# Altium footprint library ECard_Lib.PcbLib: 20 footprints (part 1 of 2)
Each footprint in its own frame and in the unit in brackets; x right, y up, seen from the top. Pads: shape width x height; smd on the part's side, far side on the other; paste and mask are expansions set on the pad; w line width, h text height; cw(c..) or ccw(c..) is an arc to the next point about the centre after c.
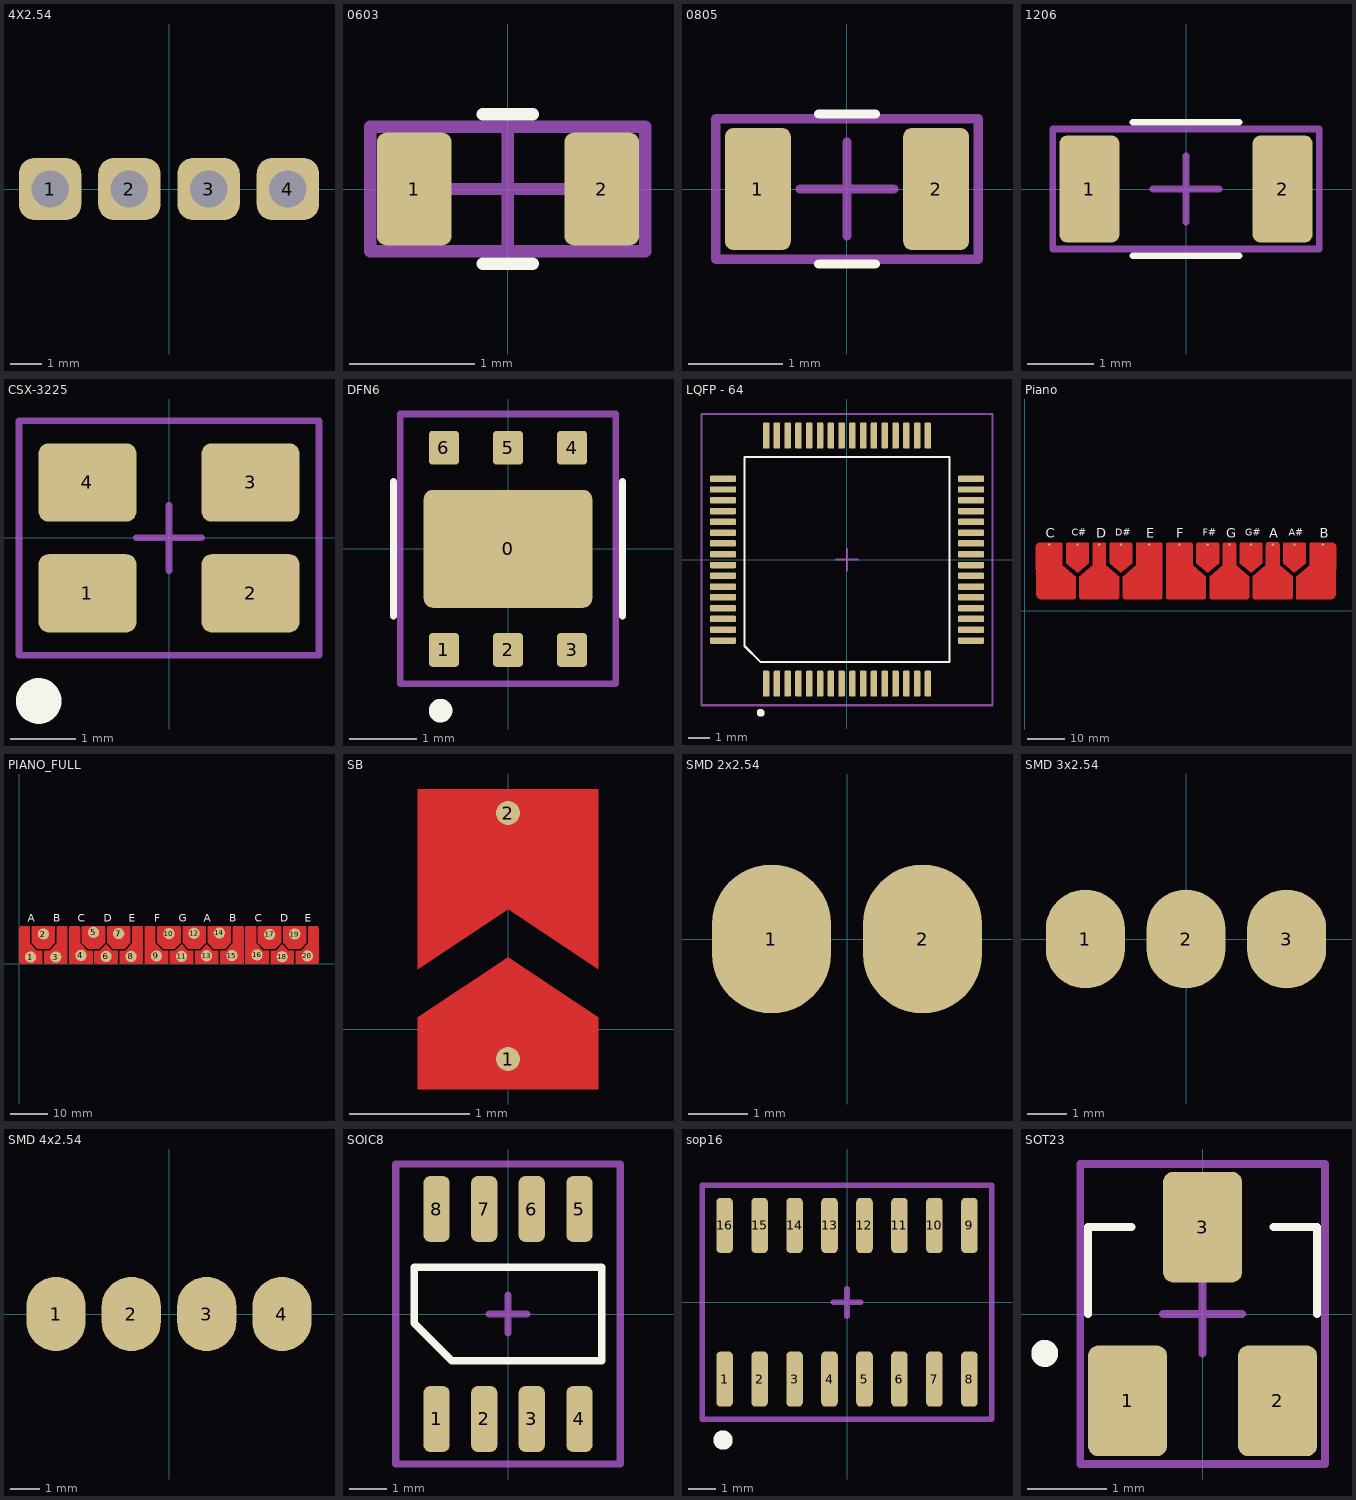
[diagram p0: the footprints below, top view; thin cyan lines are the x and y axes]

## 4X2.54 [mm]
pads (4):
  rrect50% 2x2 hole 1.2 mask+0.05: 1(-3.81,0) 2(-1.27,0) 3(1.27,0) 4(3.81,0)
3D body "1x4 Male Pin Header.STEP": height 10.54, standoff -3, extent -5.08,-1.25 5.085,1.25

## 0603 [mm]
pads (2):
  rrect25% 0.6x0.9 smd mask+0.05: 1(-0.75,0) 2(0.75,0)
Top Overlay:
  lines w0.1: -0.2,-0.6 0.2,-0.6 ; -0.2,0.6 0.2,0.6
Mechanical 15:
  lines w0.1: -0.5,0 0.5,0 ; 0,-0.5 0,0.5 ; -1.1,-0.5 -1.1,0.5 1.1,0.5 1.1,-0.5 -1.1,-0.5
3D body "Resistor 1608 (0603).step": height 0.45, standoff 0, extent -0.8,-0.4 0.8,0.4

## 0805 [mm]
pads (2):
  rrect25% 0.7x1.3 smd mask+0.05: 1(-0.95,0) 2(0.95,0)
Top Overlay:
  lines w0.1: -0.3,-0.8 0.3,-0.8 ; -0.3,0.8 0.3,0.8
Mechanical 15:
  lines w0.1: -0.5,0 0.5,0 ; 0,-0.5 0,0.5 ; -1.4,-0.75 -1.4,0.75 1.4,0.75 1.4,-0.75 -1.4,-0.75
3D body "C0805_135.step": height 1.35, standoff 0, extent -1,-0.625 1,0.625

## 1206 [mm]
pads (2):
  rrect25% 0.9x1.6 smd mask+0.05: 1(-1.45,0) 2(1.45,0)
Top Overlay:
  lines w0.1: -0.8,-1 0.8,-1 ; -0.8,1 0.8,1
Mechanical 15:
  lines w0.1: -0.5,0 0.5,0 ; 0,-0.5 0,0.5 ; -2,-0.9 -2,0.9 2,0.9 2,-0.9 -2,-0.9
3D body "Resistor_1206.step": height 0.61, standoff 0.01, extent -1.6,-0.8 1.6,0.8

## CSX-3225 [mm]
pads (4):
  rrect25% 1.5x1.2 smd mask+0.05: 1(-1.25,-0.85) 2(1.25,-0.85) 3(1.25,0.85) 4(-1.25,0.85)
Top Overlay:
  circle w0.5: c-2,-2.5 r0.1
Mechanical 15:
  lines w0.1: -0.5,0 0.5,0 ; 0,-0.5 0,0.5 ; -2.3,-1.8 2.3,-1.8 2.3,1.8 -2.3,1.8 -2.3,-1.8
3D body "3225 SMD Crystal Oscillator.STEP": height 0.65, standoff -0.05, extent -1.6,-1.25 1.6,1.25

## DFN6 [mm]
pads (7):
  rrect15% 2.5x1.75 smd mask+0.05: 0(0,0)
  rrect25% 0.45x0.5 smd mask+0.05: 1(-0.95,-1.5) 2(0,-1.5) 3(0.95,-1.5) 4(0.95,1.5) 5(0,1.5) 6(-0.95,1.5)
Top Overlay:
  circle w0.25: c-1,-2.4 r0.05
  lines w0.1: -1.7,-1 -1.7,1 ; 1.7,-1 1.7,1
Mechanical 15:
  lines w0.1: -0.5,0 0.5,0 ; 0,-0.5 0,0.5 ; -1.6,-2 1.6,-2 1.6,2 -1.6,2 -1.6,-2
3D body: height 0.8, standoff 0, extent -1.5,-1.5 1.5,1.5

## LQFP - 64 [mm]
pads (64):
  rrect30% 0.3x1.2 smd mask-0.5: 1(-3.75,-5.75) 2(-3.25,-5.75) 3(-2.75,-5.75) 4(-2.25,-5.75) 5(-1.75,-5.75) 6(-1.25,-5.75) 7(-0.75,-5.75) 8(-0.25,-5.75) 9(0.25,-5.75) 10(0.75,-5.75) 11(1.25,-5.75) 12(1.75,-5.75) 13(2.25,-5.75) 14(2.75,-5.75) 15(3.25,-5.75) 16(3.75,-5.75) 33(3.75,5.75) 34(3.25,5.75) 35(2.75,5.75) 36(2.25,5.75) 37(1.75,5.75) 38(1.25,5.75) 39(0.75,5.75) 40(0.25,5.75) 41(-0.25,5.75) 42(-0.75,5.75) 43(-1.25,5.75) 44(-1.75,5.75) 45(-2.25,5.75) 46(-2.75,5.75) 47(-3.25,5.75) 48(-3.75,5.75)
  rrect30% 1.2x0.3 smd mask-0.5: 17(5.75,-3.75) 18(5.75,-3.25) 19(5.75,-2.75) 20(5.75,-2.25) 21(5.75,-1.75) 22(5.75,-1.25) 23(5.75,-0.75) 24(5.75,-0.25) 25(5.75,0.25) 26(5.75,0.75) 27(5.75,1.25) 28(5.75,1.75) 29(5.75,2.25) 30(5.75,2.75) 31(5.75,3.25) 32(5.75,3.75) 49(-5.75,3.75) 50(-5.75,3.25) 51(-5.75,2.75) 52(-5.75,2.25) 53(-5.75,1.75) 54(-5.75,1.25) 55(-5.75,0.75) 56(-5.75,0.25) 57(-5.75,-0.25) 58(-5.75,-0.75) 59(-5.75,-1.25) 60(-5.75,-1.75) 61(-5.75,-2.25) 62(-5.75,-2.75) 63(-5.75,-3.25) 64(-5.75,-3.75)
Top Overlay:
  circle w0.254: c-4,-7.1 r0.056
  lines w0.1: -4.75,-4 -4,-4.75 4.75,-4.75 4.75,4.75 -4.75,4.75 -4.75,-4
Top Solder:
  region: 3.969,-6.374 3.969,-6.384 3.962,-6.402 3.947,-6.416 3.929,-6.424 3.919,-6.424 -3.921,-6.424 -3.931,-6.424 -3.949,-6.416 -3.963,-6.402 -3.971,-6.384 -3.971,-6.374 -3.971,-5.134 -3.971,-5.124 -3.963,-5.105 -3.949,-5.091 -3.931,-5.084 -3.921,-5.084 3.919,-5.084 3.929,-5.084 3.947,-5.091 3.962,-5.105 3.969,-5.124 3.969,-5.134
  region: 5.13,-3.97 5.12,-3.97 5.102,-3.962 5.088,-3.948 5.08,-3.93 5.08,-3.92 5.08,3.92 5.08,3.93 5.088,3.948 5.102,3.962 5.12,3.97 5.13,3.97 6.37,3.97 6.38,3.97 6.398,3.962 6.412,3.948 6.42,3.93 6.42,3.92 6.42,-3.92 6.42,-3.93 6.412,-3.948 6.398,-3.962 6.38,-3.97 6.37,-3.97
  region: 3.97,5.13 3.97,5.12 3.962,5.102 3.948,5.088 3.93,5.08 3.92,5.08 -3.92,5.08 -3.93,5.08 -3.948,5.088 -3.962,5.102 -3.97,5.12 -3.97,5.13 -3.97,6.37 -3.97,6.38 -3.962,6.398 -3.948,6.412 -3.93,6.42 -3.92,6.42 3.92,6.42 3.93,6.42 3.948,6.412 3.962,6.398 3.97,6.38 3.97,6.37
  region: -6.37,-3.97 -6.38,-3.97 -6.398,-3.962 -6.412,-3.948 -6.42,-3.93 -6.42,-3.92 -6.42,3.92 -6.42,3.93 -6.412,3.948 -6.398,3.962 -6.38,3.97 -6.37,3.97 -5.13,3.97 -5.12,3.97 -5.102,3.962 -5.088,3.948 -5.08,3.93 -5.08,3.92 -5.08,-3.92 -5.08,-3.93 -5.088,-3.948 -5.102,-3.962 -5.12,-3.97 -5.13,-3.97
Top Designator:
  text ".Designator" at -6.618,7.492 h1.52
Mechanical 15:
  lines w0.1: -0.5,0 0.5,0 ; 0,-0.5 0,0.5 ; -6.75,-6.75 -6.75,6.75 6.75,6.75 6.75,-6.75 -6.75,-6.75
3D body "LQFP64.STEP": height 1.6, standoff 0, extent -6.001,-6.027 6.016,5.99

## Piano [mm]
pads (12):
  round 0.6 smd mask+0.05: 1(6.5,17.5) 2(14,17.5) 3(19.75,17.5) 4(25.5,17.5) 5(33,17.5) 6(41,17.5) 7(48.5,17.5) 8(54.25,17.5) 9(60,17.5) 10(65.75,17.5) 11(71.5,17.5) 12(79,17.5)
Top Layer:
  region: 72,3 72,9 75.5,12 75.5,17.5 75.5,17.599 75.576,17.783 75.717,17.924 75.901,18 76,18 81.5,18 81.598,18 81.792,17.962 81.974,17.886 82.137,17.777 82.277,17.637 82.386,17.474 82.462,17.292 82.5,17.098 82.5,17 82.5,4.5 82.5,4.352 82.442,4.062 82.329,3.789 82.165,3.544 81.956,3.335 81.711,3.171 81.438,3.058 81.148,3 81,3
  region: 68.5,12.5 71.5,10 74.5,12.5 74.5,17.5 74.5,17.599 74.424,17.783 74.283,17.924 74.099,18 74,18 69,18 68.901,18 68.717,17.924 68.576,17.783 68.5,17.599 68.5,17.5
  region: 60.45,3.5 60.45,3.391 60.533,3.188 60.688,3.034 60.89,2.95 60.999,2.95 61,2.95 70.5,2.95 70.501,2.95 70.61,2.95 70.812,3.034 70.967,3.188 71.05,3.391 71.05,3.5 71.05,9 71.05,9.005 71.048,9.016 71.043,9.026 71.037,9.035 71.033,9.038 67.55,12.023 67.55,17.5 67.55,17.609 67.467,17.812 67.312,17.967 67.109,18.05 67,18.05 64.5,18.05 64.391,18.05 64.188,17.967 64.034,17.812 63.95,17.61 63.95,17.501 63.95,17.5 63.95,17.501 63.95,17.5 63.95,12.023 60.467,9.038 60.463,9.035 60.457,9.026 60.452,9.016 60.45,9.005 60.45,9
  region: 57,12.5 60,10 63,12.5 63,17.5 63,17.599 62.924,17.783 62.783,17.924 62.599,18 62.5,18 57.5,18 57.401,18 57.217,17.924 57.076,17.783 57,17.599 57,17.5
  region: 49,3.5 49,9 52.5,12 52.5,17.5 52.5,17.599 52.576,17.783 52.717,17.924 52.901,18 53,18 55.5,18 55.599,18 55.783,17.924 55.924,17.783 56,17.599 56,17.5 56,12 59.5,9 59.5,3.5 59.5,3.401 59.424,3.217 59.283,3.076 59.099,3 59,3 49.5,3 49.401,3 49.217,3.076 49.076,3.217 49,3.401
  region: 45.5,12.5 48.5,10 51.5,12.5 51.5,17.5 51.5,17.599 51.424,17.783 51.283,17.924 51.099,18 51,18 46,18 45.901,18 45.717,17.924 45.576,17.783 45.5,17.599 45.5,17.5
  region: 37.5,3.5 37.5,3.401 37.576,3.217 37.717,3.076 37.901,3 38,3 47.5,3 47.599,3 47.783,3.076 47.924,3.217 48,3.401 48,3.5 48,9 44.5,12 44.5,17.5 44.5,17.599 44.424,17.783 44.283,17.924 44.099,18 44,18 38,18 37.901,18 37.717,17.924 37.576,17.783 37.5,17.599 37.5,17.5
  region: 26,3.5 26,3.401 26.076,3.217 26.217,3.076 26.401,3 26.5,3 36,3 36.099,3 36.283,3.076 36.424,3.217 36.5,3.401 36.5,3.5 36.5,17.5 36.5,17.599 36.424,17.783 36.283,17.924 36.099,18 36,18 30,18 29.901,18 29.717,17.924 29.576,17.783 29.5,17.599 29.5,17.5 29.5,12 26,9
  region: 22.5,12.5 25.5,10 28.5,12.5 28.5,17.5 28.5,17.599 28.424,17.783 28.283,17.924 28.099,18 28,18 23,18 22.901,18 22.717,17.924 22.576,17.783 22.5,17.599 22.5,17.5
  region: 14.5,3.5 14.5,9 18,12 18,17.5 18,17.599 18.076,17.783 18.217,17.924 18.401,18 18.5,18 21,18 21.099,18 21.283,17.924 21.424,17.783 21.5,17.599 21.5,17.5 21.5,12 25,9 25,3.5 25,3.401 24.924,3.217 24.783,3.076 24.599,3 24.5,3 15,3 14.901,3 14.717,3.076 14.576,3.217 14.5,3.401
  region: 11,12.5 14,10 17,12.5 17,17.5 17,17.599 16.924,17.783 16.783,17.924 16.599,18 16.5,18 11.5,18 11.401,18 11.217,17.924 11.076,17.783 11,17.599 11,17.5
  region: 13,3 13.099,3 13.283,3.076 13.424,3.217 13.5,3.401 13.5,3.5 13.5,9 10,12 10,17.5 10,17.599 9.924,17.783 9.783,17.924 9.599,18 9.5,18 4,18 3.902,18 3.708,17.962 3.526,17.886 3.363,17.777 3.223,17.637 3.114,17.474 3.038,17.292 3,17.098 3,17 3,4.5 3,4.352 3.058,4.062 3.171,3.789 3.335,3.544 3.544,3.335 3.789,3.171 4.062,3.058 4.352,3 4.5,3
Top Overlay:
  text "C" at 5.607,19.25 h2.5
  text "D" at 18.917,19.25 h2.5
  text "E" at 32.226,19.25 h2.5
  text "F" at 40.226,19.25 h2.5
  text "G" at 53.357,19.25 h2.5
  text "A" at 64.798,19.25 h2.5
  text "B" at 78.167,19.25 h2.5
  text "C#" at 12.462,19.9 h1.8
  text "D#" at 24.056,19.9 h1.8
  text "F#" at 47.197,19.9 h1.8
  text "G#" at 58.509,19.9 h1.8
  text "A#" at 69.962,19.9 h1.8

## PIANO_FULL [mm]
pads (20):
  round 3 smd mask+0.05: 1(3.1,1.75) 2(6.5,7.9) 3(9.8,1.75) 4(16.5,2.2) 5(19.85,8.35) 6(23.2,1.95) 7(26.55,8) 8(29.85,1.95) 9(36.6,2.05) 10(39.95,8) 11(43.3,1.95) 12(46.65,8.1) 13(49.95,2.1) 14(53.35,8.2) 15(56.7,2.15) 16(63.4,2.35) 17(66.75,7.8) 18(70.1,1.85) 19(73.45,7.9) 20(76.8,2.05)
Top Layer:
  region: 0,0.75 0,9.25 0,9.324 0.029,9.469 0.085,9.605 0.167,9.728 0.272,9.833 0.395,9.915 0.531,9.971 0.676,10 0.75,10 2.5,10 2.57,10 2.698,9.947 2.797,9.848 2.85,9.72 2.85,9.65 2.85,5.4 4.75,3.5 6,3.5 6.04,3.5 6.113,3.47 6.17,3.413 6.2,3.34 6.2,3.3 6.2,0.35 6.2,0.28 6.147,0.152 6.048,0.053 5.92,0 5.85,0 0.75,0 0.676,0 0.531,0.029 0.395,0.085 0.272,0.167 0.167,0.272 0.085,0.395 0.029,0.531 0,0.676
  region: 3.35,5.55 3.35,9.65 3.35,9.72 3.403,9.848 3.502,9.947 3.63,10 3.7,10 9.2,10 9.27,10 9.398,9.947 9.497,9.848 9.55,9.72 9.55,9.65 9.55,5.55 8,4 4.9,4
  region: 6.7,0.35 6.7,3.3 6.7,3.34 6.73,3.413 6.787,3.47 6.86,3.5 6.9,3.5 8.15,3.5 10.05,5.4 10.05,9.65 10.05,9.72 10.103,9.848 10.202,9.947 10.33,10 10.4,10 12.55,10 12.62,10 12.748,9.947 12.847,9.848 12.9,9.72 12.9,9.65 12.9,0.35 12.9,0.28 12.847,0.152 12.748,0.053 12.62,0 12.55,0 7.05,0 6.98,0 6.852,0.053 6.753,0.152 6.7,0.28
  region: 13.401,0.325 13.401,9.651 13.4,9.65 13.4,9.72 13.453,9.848 13.552,9.947 13.68,10 13.75,10 13.746,9.996 15.904,9.996 15.9,10 15.97,10 16.098,9.947 16.197,9.848 16.25,9.72 16.25,9.65 16.251,9.649 16.251,5.396 18.151,3.496 19.404,3.496 19.443,3.496 19.516,3.466 19.571,3.41 19.601,3.338 19.601,3.299 19.601,0.351 19.6,0.35 19.6,0.28 19.547,0.152 19.448,0.053 19.32,0 19.25,0 19.246,-0.004 13.73,-0.004 13.75,0 13.68,0 13.552,0.053 13.453,0.152 13.4,0.28 13.4,0.35
  region: 16.75,5.55 16.75,9.65 16.75,9.72 16.803,9.848 16.902,9.947 17.03,10 17.1,10 22.6,10 22.67,10 22.798,9.947 22.897,9.848 22.95,9.72 22.95,9.65 22.95,5.55 21.4,4 18.3,4
  region: 23.45,5.55 23.45,9.65 23.45,9.72 23.503,9.848 23.602,9.947 23.73,10 23.8,10 29.3,10 29.37,10 29.498,9.947 29.597,9.848 29.65,9.72 29.65,9.65 29.65,5.55 28.1,4 25,4
  region: 26.8,0.35 26.8,3.3 26.8,3.34 26.83,3.413 26.887,3.47 26.96,3.5 27,3.5 28.25,3.5 30.15,5.4 30.15,9.65 30.15,9.72 30.203,9.848 30.302,9.947 30.43,10 30.5,10 32.65,10 32.72,10 32.848,9.947 32.947,9.848 33,9.72 33,9.65 33,0.35 33,0.28 32.947,0.152 32.848,0.053 32.72,0 32.65,0 27.15,0 27.08,0 26.952,0.053 26.853,0.152 26.8,0.28
  region: 33.5,0.35 33.5,9.65 33.5,9.72 33.553,9.848 33.652,9.947 33.78,10 33.85,10 36,10 36.07,10 36.198,9.947 36.297,9.848 36.35,9.72 36.35,9.65 36.35,5.4 38.25,3.5 39.5,3.5 39.54,3.5 39.613,3.47 39.67,3.413 39.7,3.34 39.7,3.3 39.7,0.35 39.7,0.28 39.647,0.152 39.548,0.053 39.42,0 39.35,0 33.85,0 33.78,0 33.652,0.053 33.553,0.152 33.5,0.28
  region: 36.85,5.55 36.85,9.65 36.85,9.72 36.903,9.848 37.002,9.947 37.13,10 37.2,10 42.7,10 42.77,10 42.898,9.947 42.997,9.848 43.05,9.72 43.05,9.65 43.05,5.55 41.5,4 38.4,4
  region: 43.55,5.55 43.55,9.65 43.55,9.72 43.603,9.848 43.702,9.947 43.83,10 43.9,10 49.4,10 49.47,10 49.598,9.947 49.697,9.848 49.75,9.72 49.75,9.65 49.75,5.55 48.2,4 45.1,4
  region: 50.25,5.55 50.25,9.65 50.25,9.72 50.303,9.848 50.402,9.947 50.53,10 50.6,10 56.1,10 56.17,10 56.298,9.947 56.397,9.848 56.45,9.72 56.45,9.65 56.45,5.55 54.9,4 51.8,4
  region: 53.6,0.35 53.6,3.3 53.6,3.34 53.63,3.413 53.687,3.47 53.76,3.5 53.8,3.5 55.05,3.5 56.95,5.4 56.95,9.65 56.95,9.72 57.003,9.848 57.102,9.947 57.23,10 57.3,10 59.45,10 59.52,10 59.648,9.947 59.747,9.848 59.8,9.72 59.8,9.65 59.8,0.35 59.8,0.28 59.747,0.152 59.648,0.053 59.52,0 59.45,0 53.95,0 53.88,0 53.752,0.053 53.653,0.152 53.6,0.28
  region: 60.3,0.35 60.3,9.65 60.3,9.72 60.353,9.848 60.452,9.947 60.58,10 60.65,10 62.8,10 62.87,10 62.998,9.947 63.097,9.848 63.15,9.72 63.15,9.65 63.15,5.4 65.05,3.5 66.3,3.5 66.34,3.5 66.413,3.47 66.47,3.413 66.5,3.34 66.5,3.3 66.5,0.35 66.5,0.28 66.447,0.152 66.348,0.053 66.22,0 66.15,0 60.65,0 60.58,0 60.452,0.053 60.353,0.152 60.3,0.28
  region: 63.65,5.55 63.65,9.65 63.65,9.72 63.703,9.848 63.802,9.947 63.93,10 64,10 69.5,10 69.57,10 69.698,9.947 69.797,9.848 69.85,9.72 69.85,9.65 69.85,5.55 68.3,4 65.2,4
  region: 70.35,5.55 70.35,9.65 70.35,9.72 70.403,9.848 70.502,9.947 70.63,10 70.7,10 76.2,10 76.27,10 76.398,9.947 76.497,9.848 76.55,9.72 76.55,9.65 76.55,5.55 75,4 71.9,4
  region: 73.7,0.35 73.7,3.3 73.7,3.34 73.73,3.413 73.787,3.47 73.86,3.5 73.9,3.5 75.15,3.5 77.05,5.4 77.05,9.65 77.05,9.72 77.103,9.848 77.202,9.947 77.33,10 77.4,10 79.152,10 79.15,10 79.224,10 79.369,9.971 79.505,9.915 79.628,9.833 79.733,9.728 79.815,9.605 79.871,9.469 79.9,9.324 79.9,9.25 79.9,9.252 79.9,0.748 79.9,0.75 79.9,0.676 79.871,0.531 79.815,0.395 79.733,0.272 79.628,0.167 79.505,0.085 79.369,0.029 79.224,0 79.15,0 74.05,0 73.98,0 73.852,0.053 73.753,0.152 73.7,0.28
  region: 20.1,0.35 20.1,3.3 20.1,3.34 20.13,3.413 20.187,3.47 20.26,3.5 20.3,3.5 21.55,3.5 23.2,5.15 24.85,3.5 26.1,3.5 26.14,3.5 26.213,3.47 26.27,3.413 26.3,3.34 26.3,3.3 26.3,0.35 26.3,0.28 26.247,0.152 26.148,0.053 26.02,0 25.95,0 20.45,0 20.38,0 20.252,0.053 20.153,0.152 20.1,0.28
  region: 40.2,0.35 40.2,3.3 40.2,3.34 40.23,3.413 40.287,3.47 40.36,3.5 40.4,3.5 41.65,3.5 43.3,5.15 44.95,3.5 46.2,3.5 46.24,3.5 46.313,3.47 46.37,3.413 46.4,3.34 46.4,3.3 46.4,0.35 46.4,0.28 46.347,0.152 46.248,0.053 46.12,0 46.05,0 40.55,0 40.48,0 40.352,0.053 40.253,0.152 40.2,0.28
  region: 46.9,0.35 46.9,3.3 46.9,3.34 46.93,3.413 46.987,3.47 47.06,3.5 47.1,3.5 48.35,3.5 50,5.15 51.65,3.5 52.9,3.5 52.94,3.5 53.013,3.47 53.07,3.413 53.1,3.34 53.1,3.3 53.1,0.35 53.1,0.28 53.047,0.152 52.948,0.053 52.82,0 52.75,0 47.25,0 47.18,0 47.052,0.053 46.953,0.152 46.9,0.28
  region: 67,0.35 67,3.3 67,3.34 67.03,3.413 67.087,3.47 67.16,3.5 67.2,3.5 68.45,3.5 70.1,5.15 71.75,3.5 73,3.5 73.04,3.5 73.113,3.47 73.17,3.413 73.2,3.34 73.2,3.3 73.2,0.35 73.2,0.28 73.147,0.152 73.048,0.053 72.92,0 72.85,0 67.35,0 67.28,0 67.152,0.053 67.053,0.152 67,0.28
Top Overlay:
  text "A" at 2.338,11.154 h2
  text "B" at 9.133,11.154 h2
  text "C" at 15.686,11.154 h2
  text "D" at 22.533,11.154 h2
  text "E" at 29.281,11.154 h2
  text "F" at 35.981,11.154 h2
  text "G" at 42.486,11.154 h2
  text "A" at 49.238,11.154 h2
  text "C" at 62.786,11.154 h2
  text "D" at 69.533,11.154 h2
  text "E" at 76.081,11.154 h2
  text "B" at 55.933,11.154 h2

## SB [mm]
pads (2):
  round 0.2 smd mask+0.05: 1(0,-0.25) 2(0,1.8)
Top Layer:
  region: -0.75,0.5 0,1 0.75,0.5 0.75,2 -0.75,2
  region: -0.75,-0.5 0.75,-0.5 0.75,0.1 0,0.6 -0.75,0.1

## SMD 2x2.54 [mm]
pads (2):
  oval 2x2.5 smd mask+0.05: 1(-1.27,0) 2(1.27,0)

## SMD 3x2.54 [mm]
pads (3):
  oval 2x2.5 smd mask+0.05: 1(-2.54,0) 2(0,0) 3(2.54,0)

## SMD 4x2.54 [mm]
pads (4):
  oval 2x2.5 smd mask+0.05: 1(-3.81,0) 2(-1.27,0) 3(1.27,0) 4(3.81,0)

## SOIC8 [mm]
pads (8):
  rrect50% 0.7x1.75 smd mask+0.05: 1(-1.905,-2.8) 2(-0.635,-2.8) 3(0.635,-2.8) 4(1.905,-2.8) 5(1.905,2.8) 6(0.635,2.8) 7(-0.635,2.8) 8(-1.905,2.8)
Top Overlay:
  lines w0.2: -2.5,-0.25 -1.5,-1.25 2.5,-1.25 2.5,1.25 -2.5,1.25 -2.5,-0.25
Mechanical 15:
  lines w0.2: -0.5,0 0.5,0 ; 0,-0.5 0,0.5 ; -3,-4 -3,4 3,4 3,-4 -3,-4
3D body "8SIOC.stp": height 1.94, standoff -0.01, extent -2.502,-3.099 2.502,3.099

## sop16 [mm]
pads (16):
  rrect50% 0.6x2 smd mask+0.05: 1(-4.445,-2.79) 2(-3.175,-2.79) 3(-1.905,-2.79) 4(-0.635,-2.79) 5(0.635,-2.79) 6(1.905,-2.79) 7(3.175,-2.79) 8(4.445,-2.79) 9(4.445,2.79) 10(3.175,2.79) 11(1.905,2.79) 12(0.635,2.79) 13(-0.635,2.79) 14(-1.905,2.79) 15(-3.175,2.79) 16(-4.445,2.79)
Top Overlay:
  circle w0.5: c-4.5,-5 r0.1
Mechanical 15:
  lines w0.2: -0.5,0 0.5,0 ; 0,-0.5 0,0.5 ; -5.25,-4.25 5.25,-4.25 5.25,4.25 -5.25,4.25 -5.25,-4.25
3D body "sop-16_74hc595d.stp": height 1.7, standoff 0, extent -5,-3.4 5,3.4

## SOT23 [mm]
pads (3):
  rrect25% 1x1.4 smd mask+0.05: 1(-0.95,-1.1) 2(0.95,-1.1) 3(0,1.1)
Top Overlay:
  circle w0.2: c-2,-0.5 r0.071
  lines w0.1: -1.45,0 -1.45,1.1 -0.9,1.1 ; 0.9,1.1 1.45,1.1 1.45,0
Bottom Designator:
  lines w0.1: -0.5,0 0.5,0 ; 0,-0.5 0,0.5 ; -1.55,-1.9 -1.55,1.9 1.55,1.9 1.55,-1.9 -1.55,-1.9
3D body "SOT23-3.step": height 1.1, standoff 0, extent -1.45,-1.2 1.55,1.3